# Altium schematic symbol library ADI-ADF4351-CP-32-2.SchLib: 1 symbol
Pins are listed as number, name and electrical type; pins without a type are passive.

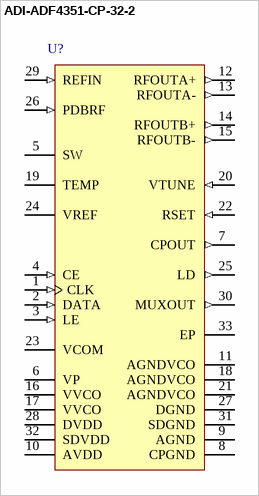
[diagram p0: symbol ADI-ADF4351-CP-32-2]

## ADI-ADF4351-CP-32-2
designator U?
pins: 1 CLK (in) "Serial Clock Input. Data is clocked into the 32-bit shift register on the CLK rising edge. This input is a high impedance CMOS input.", 2 DATA (in) "Serial Data Input. The serial data is loaded MSB first with the three LSBs as the control bits. This input is a highimpedance CMOS input.", 3 LE (in) "Load Enable, CMOS Input. When LE goes high, the data stored in the shift register is loaded into the register that is selected by the three LSBs.", 4 CE (in) "Chip Enable. A logic low on this pin powers down the device and puts the charge pump into three-state mode. [see datasheet]", 5 SW "Fast-Lock Switch. A connection should be made from the loop filter to this pin when using the fast-lock mode.", 6 VP (power) "Charge Pump Power Supply. This pin is to be equal to AVDD. Decoupling capacitors to the ground plane are to be placed as close as possible to this pin.", 7 CPOUT (out) "Charge Pump Output. When enabled, this provides +/-ICP to the external loop filter. The output of the loop filter is connected to VTUNE to drive the internal VCO.", 8 CPGND (power) "Charge Pump Ground. This is the ground return pin for CPOUT.", 9 AGND (power) "Analog Ground. This is a ground return pin for AVDD.", 10 AVDD (power) "Analog Power Supply. This pin ranges from 3.0 V to 3.6 V. Decoupling capacitors to the analog ground plane are to be placed as close as possible to this pin. [see datasheet]", 11 AGNDVCO (power) "VCO Analog Ground. These are the ground return pins for the VCO.", 12 RFOUTA+ (out) "VCO Output. The output level is programmable. The VCO fundamental output or a divided down version is available.", 13 RFOUTA- (out) "Complementary VCO Output. The output level is programmable. The VCO fundamental output or a divide down version is available.", 14 RFOUTB+ (out) "Auxilliary VCO Output. The output level is programmable. The VCO fundamental output or a divided down version is available.", 15 RFOUTB- (out) "Complementary Auxilliary VCO Output. The output level is programmable. The VCO fundamental output or a divided down version is available.", 16 VVCO (power) "Power Supply for the VCO. This ranges from 3.0 V to 3.6 V. Decoupling capacitors to the analog ground plane should be placed as close as possible to these pins. [see datasheet]", 17 VVCO (power) "Power Supply for the VCO. This ranges from 3.0 V to 3.6 V. Decoupling capacitors to the analog ground plane should be placed as close as possible to these pins. [see datasheet]", 18 AGNDVCO (power) "VCO Analog Ground. These are the ground return pins for the VCO.", 19 TEMP "Temperature Compensation Output. Decoupling capacitors to the ground plane are to be placed as close as possible to this pin.", 20 VTUNE (in) "Control Input to the VCO. This voltage determines the output frequency and is derived from filtering the CPOUT output voltage.", 21 AGNDVCO (power) "VCO Analog Ground. These are the ground return pins for the VCO.", 22 RSET (in) "Connecting a resistor between this pin and GND sets the charge pump output current. The nominal voltage bias at the RSET pin is 0.55 V.", 23 VCOM "Internal Compensation Node Biased at Half the Tuning Range. Decoupling capacitors to the ground plane should be placed as close as possible to this pin.", 24 VREF "Reference Voltage. Decoupling capacitors to the ground plane should be placed as close as possible to this pin.", 25 LD (out) "Lock Detect Output Pin. This pin outputs a logic high to indicate PLL lock. A logic low output indicates loss of PLL lock.", 26 PDBRF (in) "RF Power-Down. A logic low on this pin mutes the RF outputs. This function is also software controllable.", 27 DGND (power) "Digital Ground. Ground return path for DVDD.", 28 DVDD (power) "Digital Power Supply. This pin should be the same voltage as AVDD. Decoupling capacitors to the ground plane should be placed as close as possible to this pin.", 29 REFIN (in) "Reference Input. This is a CMOS input with a nominal threshold of VDD/2 and a dc equivalent input resistance of 100 k ohm. [see datasheet]", 30 MUXOUT (out) "Multiplexer Output. This multiplexer output allows either the lock detect, the scaled RF, or the scaled reference frequency to be accessed externally.", 31 SDGND (power) "Digital Sigma-Delta Modulator Ground. Ground return path for the Sigma-Delta Modulator.", 32 SDVDD (power) "Power Supply Pin for the Digital Sigma-Delta Modulator. Should be the same voltage as AVDD. Decoupling capacitors to the ground plane are to be placed as close as possible to this pin.", 33 EP (power) "Exposed Pad."